# Altium schematic symbol library eSolderControl_v3.SchLib: 1 symbol
Pins are listed as number, name and electrical type; pins without a type are passive.

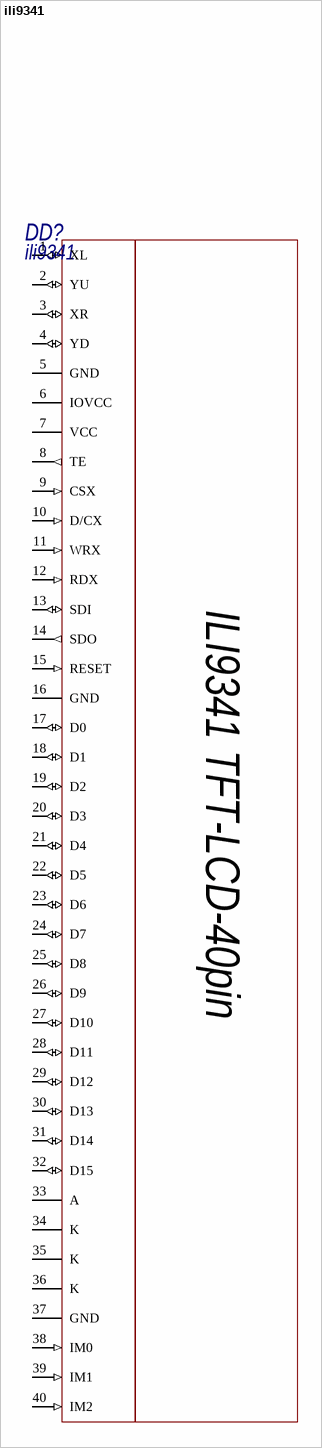
[diagram p0: symbol ili9341]

## ili9341
designator DD?
footprint ili9341-2.4'' (ili9341-40pin)
pins: 1 XL (io), 2 YU (io), 3 XR (io), 4 YD (io), 5 GND (power), 6 IOVCC (power), 7 VCC (power), 8 TE (out), 9 CSX (in), 10 D/CX (in), 11 WRX (in), 12 RDX (in), 13 SDI (io), 14 SDO (out), 15 RESET (in), 16 GND (power), 17 D0 (io), 18 D1 (io), 19 D2 (io), 20 D3 (io), 21 D4 (io), 22 D5 (io), 23 D6 (io), 24 D7 (io), 25 D8 (io), 26 D9 (io), 27 D10 (io), 28 D11 (io), 29 D12 (io), 30 D13 (io), 31 D14 (io), 32 D15 (io), 33 A (power), 34 K (power), 35 K (power), 36 K (power), 37 GND (power), 38 IM0 (in), 39 IM1 (in), 40 IM2 (in)
text: ILI9341 TFT-LCD-40pin